# Altium schematic symbol library Audio.SchLib: 84 symbols (part 1 of 2)
Pins are listed as number, name and electrical type; pins without a type are passive.

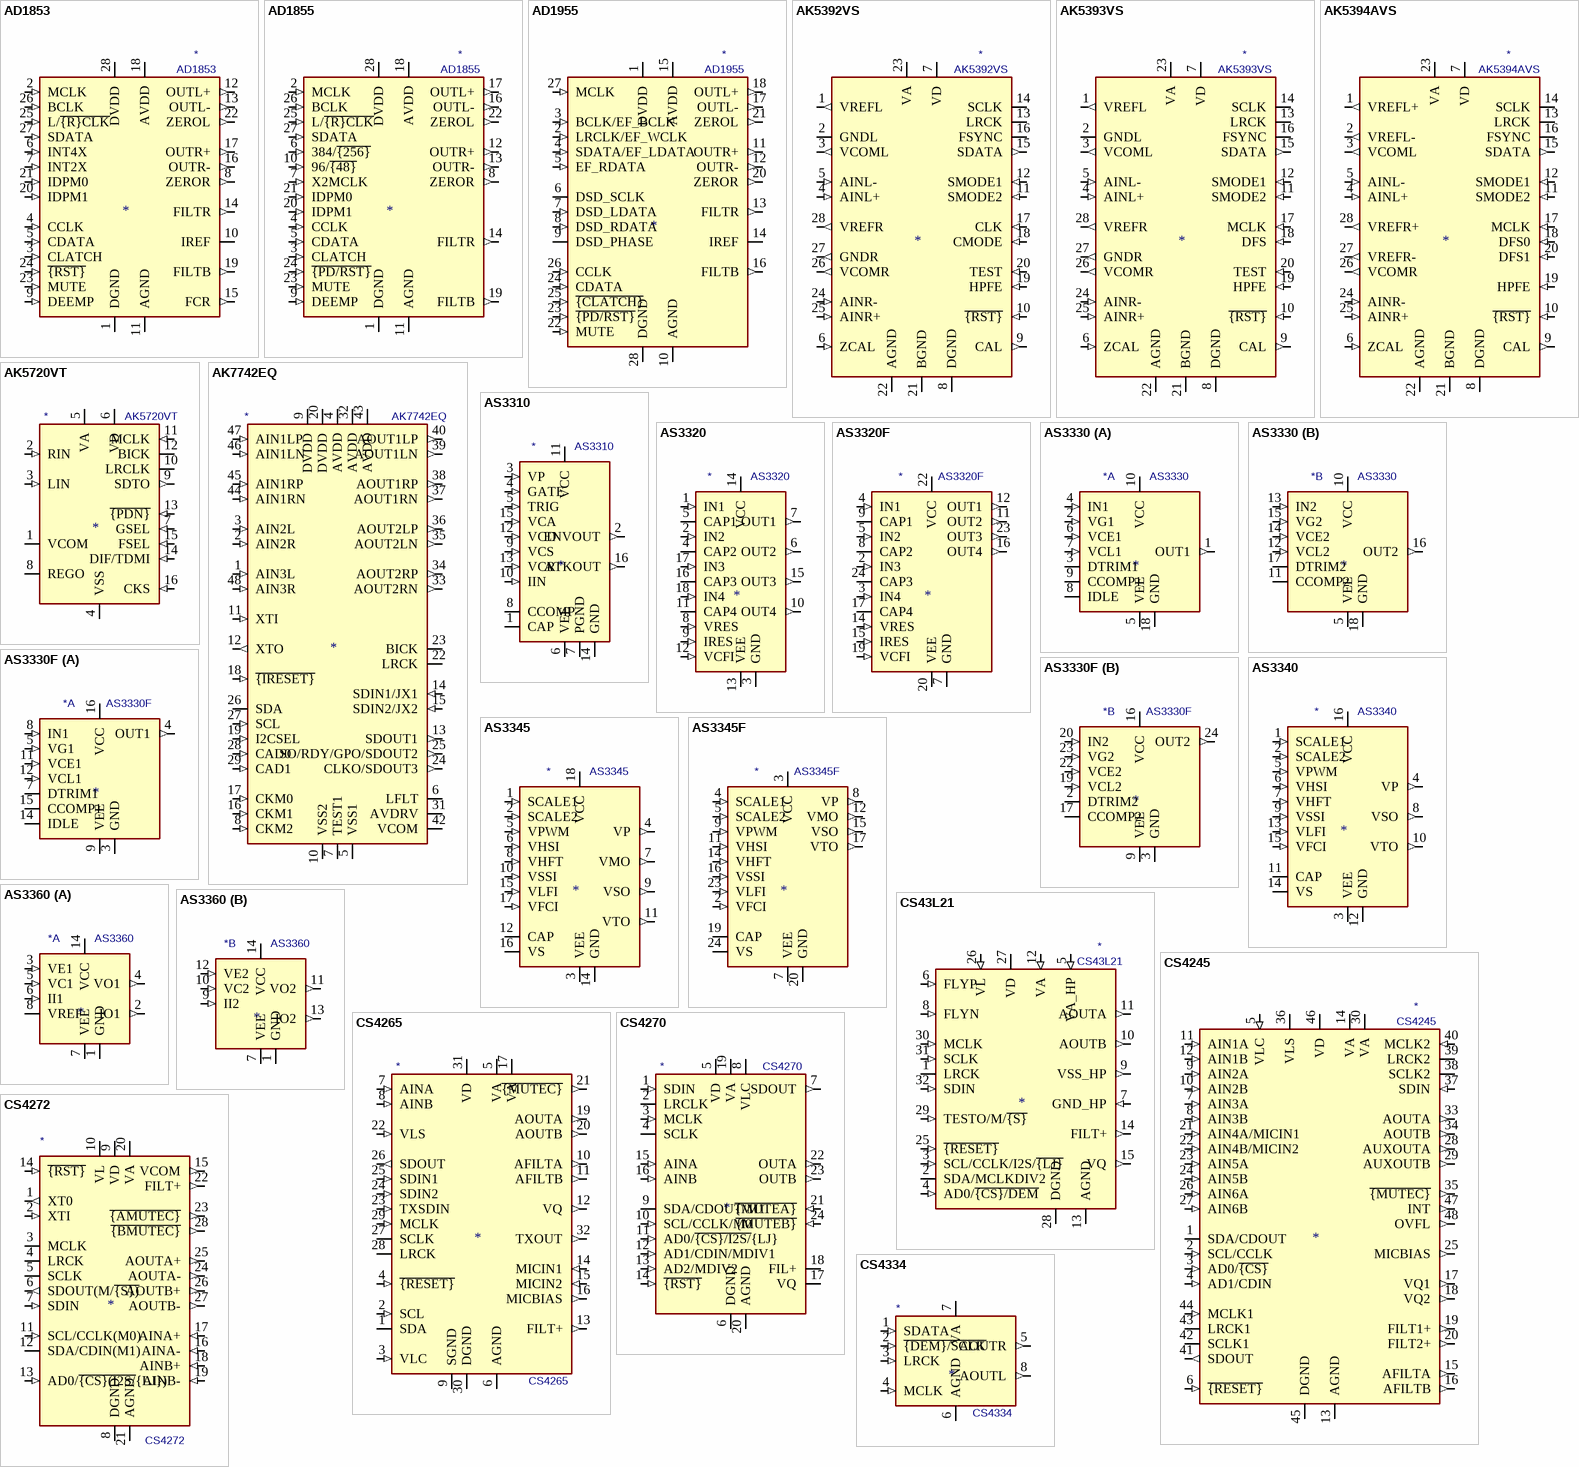
[diagram p0: symbols AD1853 to CS4334]

## AD1853
designator *  value AD1853
ki_keywords: audio dac 2ch 24bit 192kHz; ki_description: Stereo, 24-Bit, 192 kHz, Multibit Sigma-Delta DAC, SSOP-28; ki_fp_filters: SSOP*5.3x10.2mm*P0.65mm*; Footprint: Package_SO:SSOP-28_5.3x10.2mm_P0.65mm; Supplier: https://www.analog.com/media/en/technical-documentation/data-sheets/AD1853.pdf
footprint SSOP-28_5.3x10.2mm_P0.65mm
pins: 1 DGND (power), 2 MCLK (in), 3 CLATCH (in), 4 CCLK (in), 5 CDATA (in), 6 INT4X (in), 7 INT2X (in), 8 ZEROR (out), 9 DEEMP (in), 10 IREF, 11 AGND (power), 12 OUTL+ (out), 13 OUTL- (out), 14 FILTR (out), 15 FCR (out), 16 OUTR- (out), 17 OUTR+ (out), 18 AVDD (power), 19 FILTB (out), 20 IDPM1 (in), 21 IDPM0 (in), 22 ZEROL (out), 23 MUTE (in), 24 ~{{RST}} (in), 25 L/~{{R}CLK} (in), 26 BCLK (in), 27 SDATA (in), 28 DVDD (power)

## AD1855
designator *  value AD1855
ki_keywords: audio dac 2ch 24bit 96kHz; ki_description: Stereo, 96 kHz, Multibit Sigma-Delta DAC, SSOP-28; ki_fp_filters: SSOP*5.3x10.2mm*P0.65mm*; Footprint: Package_SO:SSOP-28_5.3x10.2mm_P0.65mm; Supplier: https://www.analog.com/media/en/technical-documentation/data-sheets/AD1855.pdf
footprint SSOP-28_5.3x10.2mm_P0.65mm
pins: 1 DGND (power), 2 MCLK (in), 3 CLATCH (in), 4 CCLK (in), 5 CDATA (in), 6 384/~{{256}} (in), 7 X2MCLK (in), 8 ZEROR (out), 9 DEEMP (in), 10 96/~{{48}} (in), 11 AGND (power), 12 OUTR+ (out), 13 OUTR- (out), 14 FILTR (out), 15 AGND hidden, 16 OUTL- (out), 17 OUTL+ (out), 18 AVDD (power), 19 FILTB (out), 20 IDPM1 (in), 21 IDPM0 (in), 22 ZEROL (out), 23 MUTE (in), 24 ~{{PD/RST}} (in), 25 L/~{{R}CLK} (in), 26 BCLK (in), 27 SDATA (in), 28 DVDD (power)

## AD1955
designator *  value AD1955
ki_keywords: audio dac 2ch 24bit 192kHz; ki_description: High Performance Multibit Sigma-Delta DAC with SACD Playback, SSOP-28; ki_fp_filters: SSOP*5.3x10.2mm*P0.65mm*; Footprint: Package_SO:SSOP-28_5.3x10.2mm_P0.65mm; Supplier: https://www.analog.com/media/en/technical-documentation/data-sheets/AD1955.pdf
footprint SSOP-28_5.3x10.2mm_P0.65mm
pins: 1 DVDD (power), 2 LRCLK/EF_WCLK (in), 3 BCLK/EF_BCLK (in), 4 SDATA/EF_LDATA (in), 5 EF_RDATA (in), 6 DSD_SCLK (io), 7 DSD_LDATA (in), 8 DSD_RDATA (in), 9 DSD_PHASE (io), 10 AGND (power), 11 OUTR+ (out), 12 OUTR- (out), 13 FILTR (out), 14 IREF, 15 AVDD (power), 16 FILTB (out), 17 OUTL- (out), 18 OUTL+ (out), 19 AGND hidden, 20 ZEROR (out), 21 ZEROL (out), 22 MUTE (in), 23 ~{{PD/RST}} (in), 24 CDATA (in), 25 ~{{CLATCH}} (in), 26 CCLK (in), 27 MCLK (in), 28 DGND (power)

## AK5392VS
designator *  value AK5392VS
ki_keywords: audio adc 2ch 24bit; ki_description: Enhanced Dual Bit Sigma-Delta 24Bit ADC, SOIC-28; ki_fp_filters: SOIC*7.5x18.7mm*P1.27mm*; Footprint: Package_SO:SOIC-28W_7.5x18.7mm_P1.27mm; Supplier: https://media.digikey.com/pdf/Data%20Sheets/AKM%20Semiconductor%20Inc.%20PDFs/AK5392.pdf
footprint SOIC-28W_7.5x18.7mm_P1.27mm
pins: 1 VREFL (out), 2 GNDL (power), 3 VCOML (out), 4 AINL+ (in), 5 AINL- (in), 6 ZCAL (in), 7 VD (power), 8 DGND (power), 9 CAL (out), 10 ~{{RST}} (in), 11 SMODE2 (in), 12 SMODE1 (in), 13 LRCK (io), 14 SCLK (io), 15 SDATA (out), 16 FSYNC (io), 17 CLK (in), 18 CMODE (in), 19 HPFE (in), 20 TEST (in), 21 BGND (power), 22 AGND (power), 23 VA (power), 24 AINR- (in), 25 AINR+ (in), 26 VCOMR (out), 27 GNDR (out), 28 VREFR (out)

## AK5393VS
designator *  value AK5393VS
ki_keywords: audio adc 2ch 24bit 96kHz; ki_description: Enhanced Dual Bit Sigma-Delta 96kHz 24-Bit ADC, SOIC-28; ki_fp_filters: SOIC*7.5x18.7mm*P1.27mm*; Footprint: Package_SO:SOIC-28W_7.5x18.7mm_P1.27mm; Supplier: https://www.akm.com/akm/en/file/datasheet/AK5393VS.pdf
footprint SOIC-28W_7.5x18.7mm_P1.27mm
pins: 1 VREFL (out), 2 GNDL (power), 3 VCOML (out), 4 AINL+ (in), 5 AINL- (in), 6 ZCAL (in), 7 VD (power), 8 DGND (power), 9 CAL (out), 10 ~{{RST}} (in), 11 SMODE2 (in), 12 SMODE1 (in), 13 LRCK (io), 14 SCLK (io), 15 SDATA (out), 16 FSYNC (io), 17 MCLK (in), 18 DFS (in), 19 HPFE (in), 20 TEST (in), 21 BGND (power), 22 AGND (power), 23 VA (power), 24 AINR- (in), 25 AINR+ (in), 26 VCOMR (out), 27 GNDR (out), 28 VREFR (out)

## AK5394AVS
designator *  value AK5394AVS
ki_keywords: audio adc 2ch 24bit 192kHz; ki_description: Super High Performance 192kHz 24-Bit Sigma-Delta ADC, SOIC-28; ki_fp_filters: SOIC*7.5x18.7mm*P1.27mm*; Footprint: Package_SO:SOIC-28W_7.5x18.7mm_P1.27mm; Supplier: http://www.akm.com/akm/en/file/datasheet/AK5394AVS.pdf
footprint SOIC-28W_7.5x18.7mm_P1.27mm
pins: 1 VREFL+ (out), 2 VREFL- (out), 3 VCOML (out), 4 AINL+ (in), 5 AINL- (in), 6 ZCAL (in), 7 VD (power), 8 DGND (power), 9 CAL (out), 10 ~{{RST}} (in), 11 SMODE2 (in), 12 SMODE1 (in), 13 LRCK (io), 14 SCLK (io), 15 SDATA (out), 16 FSYNC (io), 17 MCLK (in), 18 DFS0 (in), 19 HPFE (in), 20 DFS1 (in), 21 BGND (power), 22 AGND (power), 23 VA (power), 24 AINR- (in), 25 AINR+ (in), 26 VCOMR (out), 27 VREFR- (out), 28 VREFR+ (out)

## AK5720VT
designator *  value AK5720VT
ki_keywords: audio adc 2ch 24bit 96kHz I2S MSB TDM; ki_description: Stereo, 96kHz, 24-Bit, Delta-Sigma ADC, TSSOP-16; ki_fp_filters: TSSOP*4.4x5mm*P0.65mm*; Footprint: Package_SO:TSSOP-16_4.4x5mm_P0.65mm; Supplier: https://www.akm.com/akm/en/file/datasheet/AK5720VT.pdf
footprint TSSOP-16_4.4x5mm_P0.65mm
pins: 1 VCOM, 2 RIN (in), 3 LIN (in), 4 VSS (power), 5 VA (power), 6 VD (power), 7 GSEL (in), 8 REGO, 9 SDTO (out), 10 LRCLK (io), 11 MCLK (in), 12 BICK (io), 13 ~{{PDN}} (in), 14 DIF/TDMI (in), 15 FSEL (in), 16 CKS (in)

## AK7742EQ
designator *  value AK7742EQ
ki_keywords: audio adc 2ch dac 4ch dsp; ki_description: 24bit 2ch ADC + 24bit 4ch DAC with Audio DSP, LQFP-48; ki_fp_filters: LQFP*7x7mm*P0.5mm*; Footprint: Package_QFP:LQFP-48_7x7mm_P0.5mm; Supplier: https://www.akm.com/akm/en/file/datasheet/AK7742EQ.pdf
footprint LQFP-48_7x7mm_P0.5mm
pins: 1 AIN3L (in), 2 AIN2R (in), 3 AIN2L (in), 4 AVDD (power), 5 VSS1 (power), 6 LFLT, 7 TEST1, 8 CKM2 (in), 9 DVDD (power), 10 VSS2 (power), 11 XTI (in), 12 XTO (out), 13 SDOUT1 (out), 14 SDIN1/JX1 (in), 15 SDIN2/JX2 (in), 16 CKM1 (in), 17 CKM0 (in), 18 ~{{IRESET}} (in), 19 I2CSEL (in), 20 DVDD (power), 21 VSS2 hidden, 22 LRCK (io), 23 BICK (io), 24 CLKO/SDOUT3 (out), 25 SO/RDY/GPO/SDOUT2 (out), 26 SDA (io), 27 SCL (in), 28 CAD0 (in), 29 CAD1 (in), 30 VSS1 hidden, 31 AVDRV, 32 AVDD (power), 33 AOUT2RN (out), 34 AOUT2RP (out), 35 AOUT2LN (out), 36 AOUT2LP (out), 37 AOUT1RN (out), 38 AOUT1RP (out), 39 AOUT1LN (out), 40 AOUT1LP (out), 41 VSS1 hidden, 42 VCOM, 43 AVDD (power), 44 AIN1RN (in), 45 AIN1RP (in), 46 AIN1LN (in), 47 AIN1LP (in), 48 AIN3R (in)

## AS3310
designator *  value AS3310
ki_keywords: VCEG CEM3310 ALFA; ki_description: ADSR Voltage Controlled Envelope Generator, DIP-16/SOIC-16; ki_fp_filters: DIP*W7.62mm* SOIC*3.9x9.9mm*P1.27mm*; Supplier: http://www.alfarzpp.lv/eng/sc/AS3310.pdf
pins: 1 CAP, 2 ENVOUT (out), 3 VP (in), 4 GATE (in), 5 TRIG (in), 6 VEE (power), 7 PGND (power), 8 CCOMP, 9 VCS (in), 10 IIN (in), 11 VCC (power), 12 VCD (in), 13 VCR (in), 14 GND (power), 15 VCA (in), 16 ATKOUT (out)

## AS3320
designator *  value AS3320
ki_keywords: VCF CEM3320 ALFA; ki_description: Voltage Controlled Filter (VCF), DIP-18; ki_fp_filters: DIP*W7.62mm*; Footprint: Package_DIP:DIP-18_W7.62mm; Supplier: http://www.alfarzpp.lv/eng/sc/AS3320.pdf
footprint DIP-18_W7.62mm
pins: 1 IN1 (in), 2 IN2 (in), 3 GND (power), 4 CAP2, 5 CAP1, 6 OUT2 (out), 7 OUT1 (out), 8 VRES (in), 9 IRES (in), 10 OUT4 (out), 11 CAP4, 12 VCFI (in), 13 VEE (power), 14 VCC (power), 15 OUT3 (out), 16 CAP3, 17 IN3 (in), 18 IN4 (in)

## AS3320F
designator *  value AS3320F
ki_keywords: VCF CEM3320 ALFA; ki_description: Voltage Controlled Filter (VCF), QFN-24; ki_fp_filters: QFN*1EP*4x4mm*P0.5mm*; Footprint: Package_DFN_QFN:QFN-24-1EP_4x4mm_P0.5mm_EP2.7x2.7mm; Supplier: http://www.alfarzpp.lv/eng/sc/AS3320.pdf
footprint QFN-24-1EP_4x4mm_P0.5mm_EP2.7x2.7mm
pins: 1 NC (in) hidden, 2 IN3 (in), 3 IN4 (in), 4 IN1 (in), 5 IN2 (in), 6 NC (in) hidden, 7 GND (power), 8 CAP2, 9 CAP1, 10 NC (in) hidden, 11 OUT2 (out), 12 OUT1 (out), 13 NC (in) hidden, 14 VRES (in), 15 IRES (in), 16 OUT4 (out), 17 CAP4, 18 NC (in) hidden, 19 VCFI (in), 20 VEE (power), 21 NC (in) hidden, 22 VCC (power), 23 OUT3 (out), 24 CAP3

## AS3330
designator *  value AS3330
ki_keywords: VCA CEM3330 ALFA; ki_description: Dual Voltage Controlled Amplifier (VCA), DIP-18; ki_fp_filters: DIP*W7.62mm*; Footprint: Package_DIP:DIP-18_W7.62mm; Supplier: http://www.alfarzpp.lv/eng/sc/AS3330.pdf
footprint DIP-18_W7.62mm
part A pins: 1 OUT1 (out), 2 VG1 (in), 3 DTRIM1, 4 IN1 (in), 5 VEE (power), 6 VCE1 (in), 7 VCL1 (in), 8 IDLE, 9 CCOMP1, 10 VCC (power), 18 GND (power)
part B pins: 5 VEE (power), 10 VCC (power), 11 CCOMP2, 12 VCL2 (in), 13 IN2 (in), 14 VCE2 (in), 15 VG2 (in), 16 OUT2 (out), 17 DTRIM2, 18 GND (power)

## AS3330F
designator *  value AS3330F
ki_keywords: VCA CEM3330 ALFA; ki_description: Dual Voltage Controlled Amplifier (VCA), QFN-24; ki_fp_filters: QFN*1EP*4x4mm*P0.5mm*; Footprint: Package_DFN_QFN:QFN-24-1EP_4x4mm_P0.5mm_EP2.7x2.7mm; Supplier: http://www.alfarzpp.lv/eng/sc/AS3330.pdf
footprint QFN-24-1EP_4x4mm_P0.5mm_EP2.7x2.7mm
part A pins: 1 NC (in) hidden, 3 GND (power), 4 OUT1 (out), 5 VG1 (in), 6 NC (in) hidden, 7 DTRIM1, 8 IN1 (in), 9 VEE (power), 10 NC (in) hidden, 11 VCE1 (in), 12 VCL1 (in), 13 NC (in) hidden, 14 IDLE, 15 CCOMP1, 16 VCC (power), 18 NC (in) hidden, 21 NC (in) hidden
part B pins: 2 DTRIM2, 3 GND (power), 9 VEE (power), 16 VCC (power), 17 CCOMP2, 19 VCL2 (in), 20 IN2 (in), 22 VCE2 (in), 23 VG2 (in), 24 OUT2 (out)

## AS3340
designator *  value AS3340
ki_keywords: VCO CEM340 ALFA; ki_description: Voltage Controlled Oscillator (VCO), DIP-16/SOIC-16; ki_fp_filters: DIP*W7.62mm* SOIC*3.9x9.9mm*P1.27mm*; Supplier: http://www.alfarzpp.lv/eng/sc/AS3340.pdf
pins: 1 SCALE1 (in), 2 SCALE2 (in), 3 VEE (power), 4 VP (out), 5 VPWM (in), 6 VHSI (in), 7 VHFT (in), 8 VSO (out), 9 VSSI (in), 10 VTO (out), 11 CAP, 12 GND (power), 13 VLFI (in), 14 VS, 15 VFCI (in), 16 VCC (power)

## AS3345
designator *  value AS3345
ki_keywords: VCO CEM345 ALFA; ki_description: Voltage Controlled Oscillator (VCO), DIP-18; ki_fp_filters: DIP*W7.62mm*; Footprint: Package_DIP:DIP-18_W7.62mm; Supplier: http://www.alfarzpp.lv/eng/sc/AS3340.pdf
footprint DIP-18_W7.62mm
pins: 1 SCALE1 (in), 2 SCALE2 (in), 3 VEE (power), 4 VP (out), 5 VPWM (in), 6 VHSI (in), 7 VMO (out), 8 VHFT (in), 9 VSO (out), 10 VSSI (in), 11 VTO (out), 12 CAP, 13 GND hidden, 14 GND (power), 15 VLFI (in), 16 VS, 17 VFCI (in), 18 VCC (power)

## AS3345F
designator *  value AS3345F
ki_keywords: VCO CEM345 ALFA; ki_description: Voltage Controlled Oscillator (VCO), QFN-24; ki_fp_filters: QFN*1EP*4x4mm*P0.5mm*; Footprint: Package_DFN_QFN:QFN-24-1EP_4x4mm_P0.5mm_EP2.7x2.7mm; Supplier: http://www.alfarzpp.lv/eng/sc/AS3340.pdf
footprint QFN-24-1EP_4x4mm_P0.5mm_EP2.7x2.7mm
pins: 1 NC (in) hidden, 2 VFCI (in), 3 VCC (power), 4 SCALE1 (in), 5 SCALE2 (in), 6 NC (in) hidden, 7 VEE (power), 8 VP (out), 9 VPWM (in), 10 NC (in) hidden, 11 VHSI (in), 12 VMO (out), 13 NC (in) hidden, 14 VHFT (in), 15 VSO (out), 16 VSSI (in), 17 VTO (out), 18 NC (in) hidden, 19 CAP, 20 GND (power), 21 NC (in) hidden, 22 GND hidden, 23 VLFI (in), 24 VS

## AS3360
designator *  value AS3360
ki_keywords: VCA CEM3360 ALFA; ki_description: Dual Voltage Controlled Amplifier (VCA), DIP-14/SOIC-14; ki_fp_filters: DIP*W7.62mm* SOIC*3.9x8.7mm*P1.27mm*; Supplier: http://www.alfarzpp.lv/eng/sc/AS3360.pdf
part A pins: 1 GND (power), 2 IO1 (out), 3 VE1 (in), 4 VO1 (out), 5 VC1 (in), 6 II1 (in), 7 VEE (power), 8 VREF, 14 VCC (power)
part B pins: 1 GND (power), 7 VEE (power), 9 II2 (in), 10 VC2 (in), 11 VO2 (out), 12 VE2 (in), 13 IO2 (out), 14 VCC (power)

## CS43L21
designator *  value CS43L21
ki_keywords: audio dac 2ch 24bit 96kHz; ki_description: Low-Power, Stereo Digital-to-Analog Converter, QFN-32; ki_fp_filters: QFN*5x5mm*P0.5mm*; Footprint: Package_DFN_QFN:QFN-32-1EP_5x5mm_P0.5mm_EP3.45x3.45mm; Supplier: https://d3uzseaevmutz1.cloudfront.net/pubs/proDatasheet/CS43L21_F1.pdf
footprint QFN-32-1EP_5x5mm_P0.5mm_EP3.45x3.45mm
pins: 1 LRCK (io), 2 SDA/MCLKDIV2 (io), 3 SCL/CCLK/I2S/~{{LJ}} (in), 4 AD0/~{{CS}/DEM} (in), 5 VA_HP (in), 6 FLYP (in), 7 GND_HP (in), 8 FLYN (in), 9 VSS_HP (out), 10 AOUTB (out), 11 AOUTA (out), 12 VA (in), 13 AGND (power), 14 FILT+ (out), 15 VQ (out), 16 NIC (in) hidden, 17 TSTO (in) hidden, 18 TSTO (in) hidden, 19 TSTO (in) hidden, 20 TSTO (in) hidden, 21 TSTO (in) hidden, 22 TSTO (in) hidden, 23 TSTO (in) hidden, 24 TSTO (in) hidden, 25 ~{{RESET}} (in), 26 VL (in), 27 VD (power), 28 DGND (power), 29 TESTO/M/~{{S}} (in), 30 MCLK (in), 31 SCLK (in), 32 SDIN (in), 33 AGND hidden

## CS4245
designator *  value CS4245
ki_keywords: audio codec 2ch 24bit 192kHz; ki_description: 104 dB, 24-Bit, 192 kHz Stereo Audio CODEC, LQFP-48; ki_fp_filters: LQFP*7x7mm*P0.5mm*; Footprint: Package_QFP:LQFP-48_7x7mm_P0.5mm; Supplier: https://d3uzseaevmutz1.cloudfront.net/pubs/proDatasheet/CS4245_F3.pdf
footprint LQFP-48_7x7mm_P0.5mm
pins: 1 SDA/CDOUT (io), 2 SCL/CCLK (in), 3 AD0/~{{CS}} (in), 4 AD1/CDIN (in), 5 VLC (in), 6 ~{{RESET}} (in), 7 AIN3A (in), 8 AIN3B (in), 9 AIN2A (in), 10 AIN2B (in), 11 AIN1A (in), 12 AIN1B (in), 13 AGND (power), 14 VA (power), 15 AFILTA (out), 16 AFILTB (out), 17 VQ1 (out), 18 VQ2 (out), 19 FILT1+ (out), 20 FILT2+ (out), 21 AIN4A/MICIN1 (in), 22 AIN4B/MICIN2 (in), 23 AIN5A (in), 24 AIN5B (in), 25 MICBIAS (out), 26 AIN6A (in), 27 AIN6B (in), 28 AUXOUTA (out), 29 AUXOUTB (out), 30 VA (power), 31 AGND hidden, 32 AGND hidden, 33 AOUTA (out), 34 AOUTB (out), 35 ~{{MUTEC}} (out), 36 VLS (power), 37 SDIN (in), 38 SCLK2 (io), 39 LRCK2 (io), 40 MCLK2 (in), 41 SDOUT (out), 42 SCLK1 (io), 43 LRCK1 (io), 44 MCLK1 (in), 45 DGND (power), 46 VD (power), 47 INT (out), 48 OVFL (out)

## CS4265
designator *  value CS4265
ki_keywords: Audio codec 24bit 192khz stereo; ki_description: 104 dB, 24-Bit, 192 kHz Stereo Audio CODEC, QFN-32; ki_fp_filters: QFN*1EP*5x5mm*0.5mm*; Footprint: Package_DFN_QFN:QFN-32-1EP_5x5mm_P0.5mm_EP3.6x3.6mm; Supplier: https://statics.cirrus.com/pubs/proDatasheet/CS4265_F5.pdf
footprint QFN-32-1EP_5x5mm_P0.5mm_EP3.6x3.6mm
pins: 1 SDA (io), 2 SCL (in), 3 VLC (in), 4 ~{{RESET}} (in), 5 VA (power), 6 AGND (power), 7 AINA (in), 8 AINB (in), 9 SGND (power), 10 AFILTA (out), 11 AFILTB (out), 12 VQ (out), 13 FILT+ (out), 14 MICIN1 (in), 15 MICIN2 (in), 16 MICBIAS (out), 17 VA (power), 18 AGND hidden, 19 AOUTA (out), 20 AOUTB (out), 21 ~{{MUTEC}} (out), 22 VLS (in), 23 TXSDIN (in), 24 SDIN2 (in), 25 SDIN1 (in), 26 SDOUT (out), 27 SCLK (io), 28 LRCK (io), 29 MCLK (in), 30 DGND (power), 31 VD (power), 32 TXOUT (out), 33 AGND hidden

## CS4270
designator *  value CS4270
ki_keywords: Audio Codec; ki_description: 24-Bit, 192-kHz Stereo Audio CODEC, TSSOP-24; ki_fp_filters: TSSOP*4.4x7.8mm*P0.65mm*; Footprint: Package_SO:TSSOP-24_4.4x7.8mm_P0.65mm; Supplier: https://statics.cirrus.com/pubs/proDatasheet/CS4270_F1.pdf
footprint TSSOP-24_4.4x7.8mm_P0.65mm
pins: 1 SDIN (in), 2 LRCLK (io), 3 MCLK (in), 4 SCLK (io), 5 VD (power), 6 DGND (power), 7 SDOUT (out), 8 VLC (power), 9 SDA/CDOUT/M1 (io), 10 SCL/CCLK/M0 (in), 11 AD0/~{{CS}/I2S/}{LJ} (in), 12 AD1/CDIN/MDIV1 (in), 13 AD2/MDIV2 (in), 14 ~{{RST}} (in), 15 AINA (in), 16 AINB (in), 17 VQ, 18 FIL+, 19 VA (power), 20 AGND (power), 21 ~{{MUTEA}} (in), 22 OUTA (out), 23 OUTB (out), 24 ~{{MUTEB}} (in)

## CS4272
designator *  value CS4272
ki_keywords: stereo 2ch audio codec i2s 24bit 192kHz; ki_description: 24-Bit, 192 kHz Stereo Audio CODEC, TSSOP-28; ki_fp_filters: TSSOP*4.4x9.7mm*P0.65mm*; Footprint: Package_SO:TSSOP-28_4.4x9.7mm_P0.65mm; Supplier: https://statics.cirrus.com/pubs/proDatasheet/CS4272_F1.pdf
footprint TSSOP-28_4.4x9.7mm_P0.65mm
pins: 1 XT0 (out), 2 XTI (in), 3 MCLK (io), 4 LRCK (io), 5 SCLK (io), 6 SDOUT(M/~{{S})} (out), 7 SDIN (in), 8 DGND (power), 9 VD (power), 10 VL (power), 11 SCL/CCLK(M0) (in), 12 SDA/CDIN(M1) (io), 13 AD0/~{{CS}(I2S/}{LJ}) (in), 14 ~{{RST}} (in), 15 VCOM (out), 16 AINA- (in), 17 AINA+ (in), 18 AINB+ (in), 19 AINB- (in), 20 VA (power), 21 AGND (power), 22 FILT+ (out), 23 ~{{AMUTEC}} (out), 24 AOUTA- (out), 25 AOUTA+ (out), 26 AOUTB+ (out), 27 AOUTB- (out), 28 ~{{BMUTEC}} (out)

## CS4334
designator *  value CS4334
ki_keywords: stereo 2ch audio codec i2s 24bit 96kHz; ki_description: 24-Bit, 96kHz Stereo D/A Converter, SOIC-8; ki_fp_filters: SOIC*3.9x4.9mm*P1.27mm*; Footprint: Package_SO:SOIC-8_3.9x4.9mm_P1.27mm; Supplier: https://statics.cirrus.com/pubs/proDatasheet/CS4334-5-8-9_F7.pdf
footprint SOIC-8_3.9x4.9mm_P1.27mm
pins: 1 SDATA (in), 2 ~{{DEM}/SCLK} (in), 3 LRCK (in), 4 MCLK (in), 5 AOUTR (out), 6 AGND (power), 7 VA (power), 8 AOUTL (out)

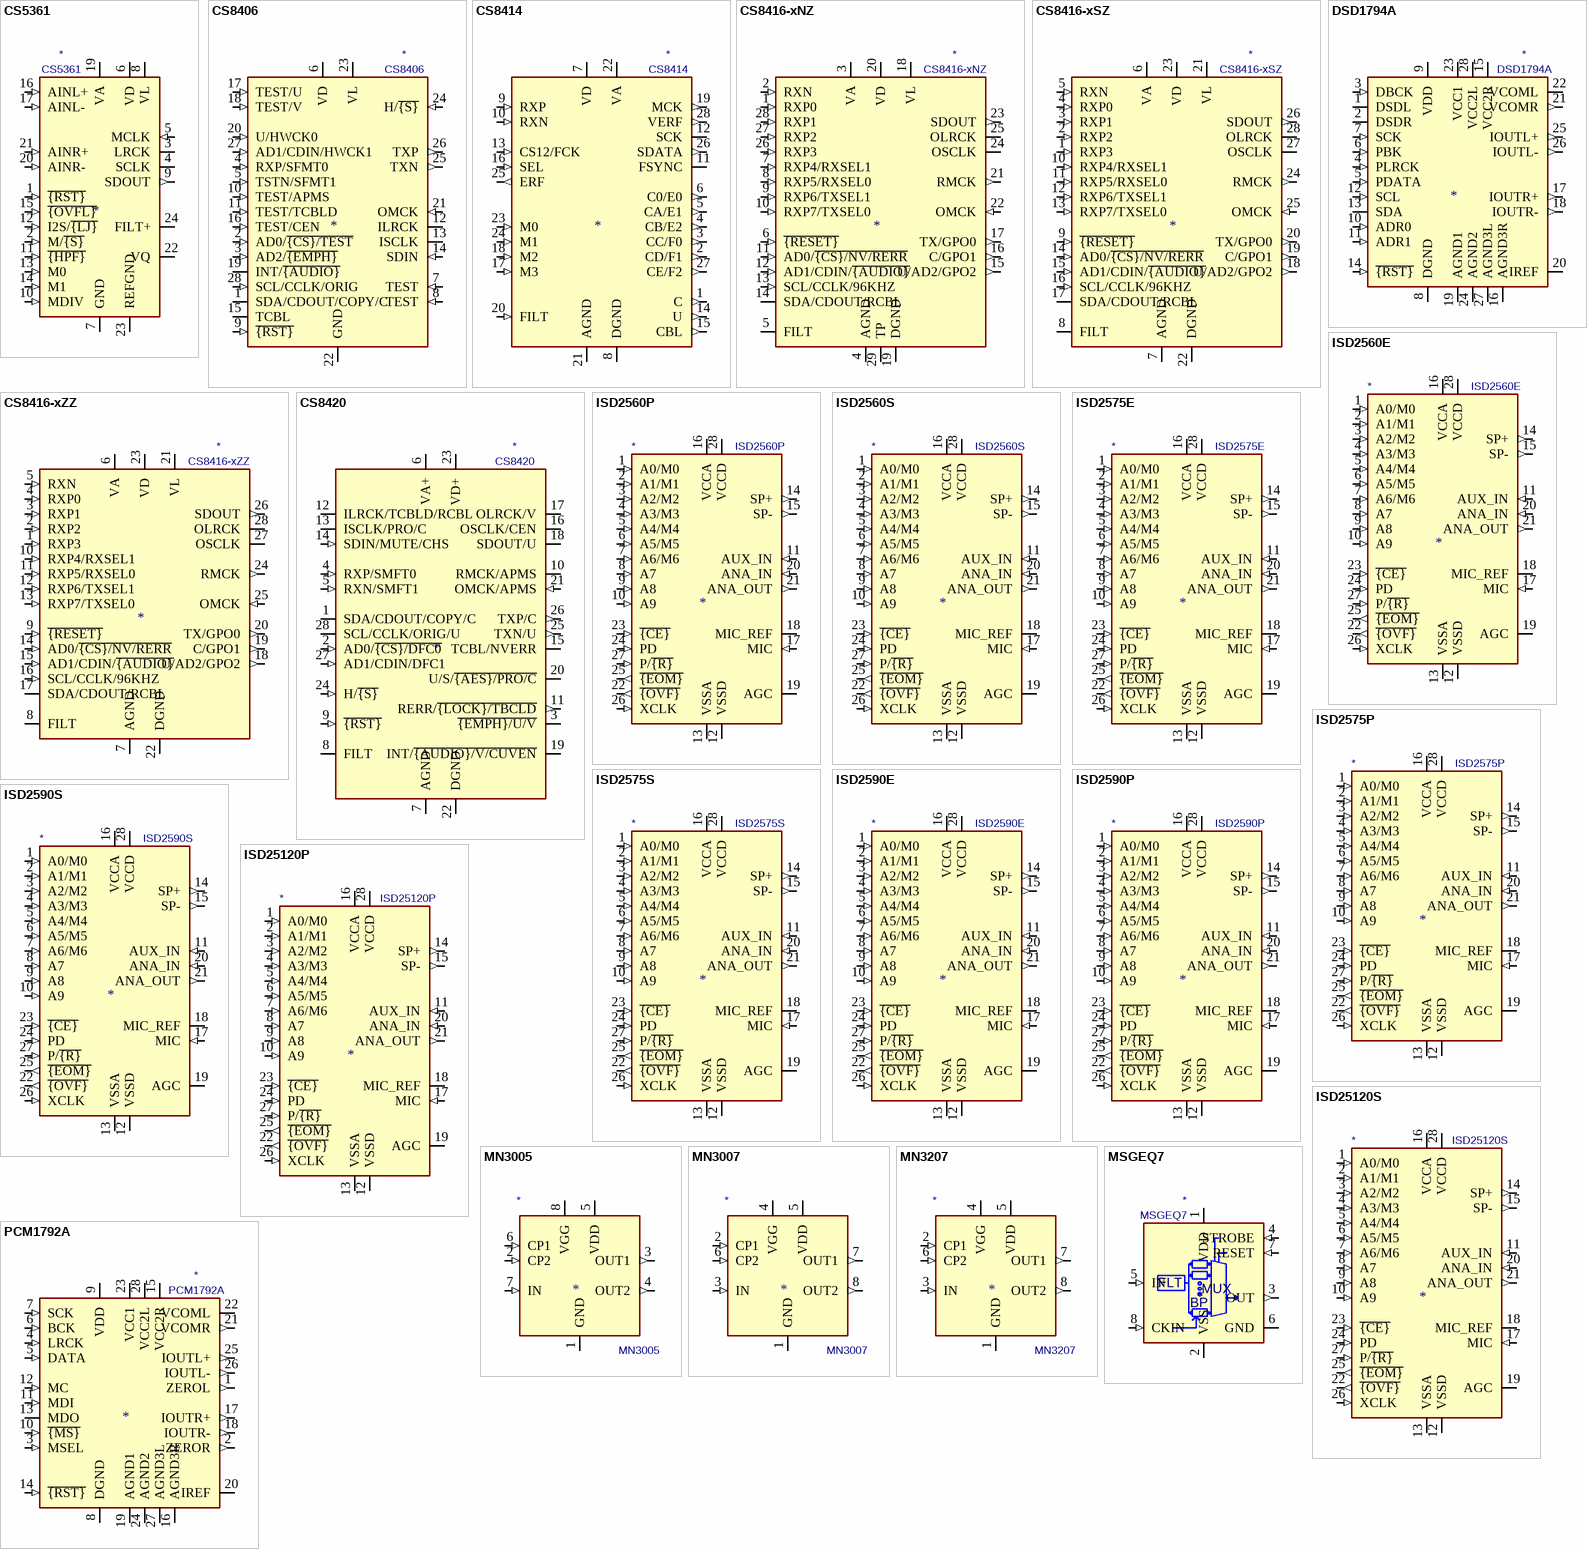
[diagram p1: symbols CS5361 to PCM1792A]

## CS5361
designator *  value CS5361
ki_keywords: audio adc 2ch 24bit 192kHz; ki_description: 114 dB, 192 kHz, Multi-Bit Audio A/D Converter, SOIC-24/TSSOP-24; ki_fp_filters: SOIC*7.5x15.4mm*P1.27mm* TSSOP*4.4x7.8mm*P0.65mm*; Supplier: https://d3uzseaevmutz1.cloudfront.net/pubs/proDatasheet/CS5361_F2.pdf
pins: 1 ~{{RST}} (in), 2 M/~{{S}} (in), 3 LRCK (io), 4 SCLK (io), 5 MCLK (in), 6 VD (power), 7 GND (power), 8 VL (power), 9 SDOUT (out), 10 MDIV (in), 11 ~{{HPF}} (in), 12 I2S/~{{LJ}} (in), 13 M0 (in), 14 M1 (in), 15 ~{{OVFL}} (in), 16 AINL+ (in), 17 AINL- (in), 18 GND hidden, 19 VA (power), 20 AINR- (in), 21 AINR+ (in), 22 VQ (power), 23 REFGND (power), 24 FILT+ (power)

## CS8406
designator *  value CS8406
ki_keywords: audio digital interface transmitter 192kHz; ki_description: 192 kHz Digital Audio Interface Transmitter, SOIC-28/TSSOP-28; ki_fp_filters: SOIC*7.5x17.9mm*P1.27mm* TSSOP*4.4x9.7mm*P0.65mm*; Supplier: https://d3uzseaevmutz1.cloudfront.net/pubs/proDatasheet/CS8406_F6.pdf
pins: 1 SDA/CDOUT/COPY/C (io), 2 AD0/~{{CS}/TEST} (in), 3 AD2/~{{EMPH}} (in), 4 RXP/SFMT0 (in), 5 TSTN/SFMT1 (in), 6 VD (power), 7 TEST (in), 8 TEST (in), 9 ~{{RST}} (in), 10 TEST/APMS (in), 11 TEST/TCBLD (in), 12 ILRCK (io), 13 ISCLK (io), 14 SDIN (in), 15 TCBL (io), 16 TEST/CEN (in), 17 TEST/U (in), 18 TEST/V (in), 19 INT/~{{AUDIO}} (io), 20 U/HWCK0 (in), 21 OMCK (in), 22 GND (power), 23 VL (power), 24 H/~{{S}} (in), 25 TXN (out), 26 TXP (out), 27 AD1/CDIN/HWCK1 (in), 28 SCL/CCLK/ORIG (in)

## CS8414
designator *  value CS8414
ki_keywords: audio digital interface receiver; ki_description: 96 kHz Digital Audio Receiver, SOIC-28; ki_fp_filters: SOIC*7.5x17.9mm*P1.27mm*; Footprint: Package_SO:SOIC-28W_7.5x17.9mm_P1.27mm; Supplier: http://lampizator.eu/LAMPIZATOR/TRANSPORT/CS8414_receiver.pdf
footprint SOIC-28W_7.5x17.9mm_P1.27mm
pins: 1 C (out), 2 CD/F1 (out), 3 CC/F0 (out), 4 CB/E2 (out), 5 CA/E1 (out), 6 C0/E0 (out), 7 VD (power), 8 DGND (power), 9 RXP (in), 10 RXN (in), 11 FSYNC (io), 12 SCK (io), 13 CS12/FCK (in), 14 U (out), 15 CBL (out), 16 SEL (in), 17 M3 (in), 18 M2 (in), 19 MCK (out), 20 FILT (in), 21 AGND (power), 22 VA (power), 23 M0 (in), 24 M1 (in), 25 ERF (out), 26 SDATA (out), 27 CE/F2 (out), 28 VERF (out)

## CS8416-xNZ
designator *  value CS8416-xNZ
ki_keywords: audio digital interface receiver; ki_description: 192 kHz Digital Audio Interface Receiver, QFN-28; ki_fp_filters: QFN*5x5mm*P0.5mm*; Footprint: Package_DFN_QFN:QFN-28-1EP_5x5mm_P0.5mm_EP3.35x3.35mm; Supplier: https://d3uzseaevmutz1.cloudfront.net/pubs/proDatasheet/CS8416_F3.pdf
footprint QFN-28-1EP_5x5mm_P0.5mm_EP3.35x3.35mm
pins: 1 RXP0 (in), 2 RXN (in), 3 VA (power), 4 AGND (power), 5 FILT, 6 ~{{RESET}} (in), 7 RXP4/RXSEL1 (in), 8 RXP5/RXSEL0 (in), 9 RXP6/TXSEL1 (in), 10 RXP7/TXSEL0 (in), 11 AD0/~{{CS}/NV/RERR} (in), 12 AD1/CDIN/~{{AUDIO}} (in), 13 SCL/CCLK/96KHZ (in), 14 SDA/CDOUT/RCBL (io), 15 U/AD2/GPO2 (out), 16 C/GPO1 (out), 17 TX/GPO0 (out), 18 VL (power), 19 DGND (power), 20 VD (power), 21 RMCK (out), 22 OMCK (in), 23 SDOUT (out), 24 OSCLK (io), 25 OLRCK (io), 26 RXP3 (in), 27 RXP2 (in), 28 RXP1 (in), 29 TP (power)

## CS8416-xSZ
designator *  value CS8416-xSZ
ki_keywords: audio digital interface receiver; ki_description: 192 kHz Digital Audio Interface Receiver, SOIC-28; ki_fp_filters: SOIC*7.5x17.9mm*P1.27mm* TSSOP*4.4x9.7mm*P0.65mm*; Supplier: https://d3uzseaevmutz1.cloudfront.net/pubs/proDatasheet/CS8416_F3.pdf
pins: 1 RXP3 (in), 2 RXP2 (in), 3 RXP1 (in), 4 RXP0 (in), 5 RXN (in), 6 VA (power), 7 AGND (power), 8 FILT, 9 ~{{RESET}} (in), 10 RXP4/RXSEL1 (in), 11 RXP5/RXSEL0 (in), 12 RXP6/TXSEL1 (in), 13 RXP7/TXSEL0 (in), 14 AD0/~{{CS}/NV/RERR} (in), 15 AD1/CDIN/~{{AUDIO}} (in), 16 SCL/CCLK/96KHZ (in), 17 SDA/CDOUT/RCBL (io), 18 U/AD2/GPO2 (out), 19 C/GPO1 (out), 20 TX/GPO0 (out), 21 VL (power), 22 DGND (power), 23 VD (power), 24 RMCK (out), 25 OMCK (in), 26 SDOUT (out), 27 OSCLK (io), 28 OLRCK (io)

## CS8416-xZZ
designator *  value CS8416-xZZ
ki_keywords: audio digital interface receiver; ki_description: 192 kHz Digital Audio Interface Receiver, TSSOP-28; ki_fp_filters: SOIC*7.5x17.9mm*P1.27mm* TSSOP*4.4x9.7mm*P0.65mm*; Supplier: https://d3uzseaevmutz1.cloudfront.net/pubs/proDatasheet/CS8416_F3.pdf
pins: 1 RXP3 (in), 2 RXP2 (in), 3 RXP1 (in), 4 RXP0 (in), 5 RXN (in), 6 VA (power), 7 AGND (power), 8 FILT, 9 ~{{RESET}} (in), 10 RXP4/RXSEL1 (in), 11 RXP5/RXSEL0 (in), 12 RXP6/TXSEL1 (in), 13 RXP7/TXSEL0 (in), 14 AD0/~{{CS}/NV/RERR} (in), 15 AD1/CDIN/~{{AUDIO}} (in), 16 SCL/CCLK/96KHZ (in), 17 SDA/CDOUT/RCBL (io), 18 U/AD2/GPO2 (out), 19 C/GPO1 (out), 20 TX/GPO0 (out), 21 VL (power), 22 DGND (power), 23 VD (power), 24 RMCK (out), 25 OMCK (in), 26 SDOUT (out), 27 OSCLK (io), 28 OLRCK (io)

## CS8420
designator *  value CS8420
ki_keywords: audio sample rate converter; ki_description: Digital Audio Sample Rate Converter, SOIC-28; ki_fp_filters: SOIC*7.5x17.9mm*P1.27mm*; Footprint: Package_SO:SOIC-28W_7.5x17.9mm_P1.27mm; Supplier: https://d3uzseaevmutz1.cloudfront.net/pubs/proDatasheet/CS8420_F4.pdf
footprint SOIC-28W_7.5x17.9mm_P1.27mm
pins: 1 SDA/CDOUT/COPY/C (io), 2 AD0/~{{CS}/DFC0} (in), 3 ~{{EMPH}/U/V} (io), 4 RXP/SMFT0 (in), 5 RXN/SMFT1 (in), 6 VA+ (power), 7 AGND (power), 8 FILT, 9 ~{{RST}} (in), 10 RMCK/APMS (io), 11 RERR/~{{LOCK}/TBCLD} (out), 12 ILRCK/TCBLD/RCBL (io), 13 ISCLK/PRO/C (io), 14 SDIN/MUTE/CHS (in), 15 TCBL/NVERR (io), 16 OSCLK/CEN (io), 17 OLRCK/V (io), 18 SDOUT/U (io), 19 INT/~{{AUDIO}/V/CUVEN} (io), 20 U/S/~{{AES}/PRO/C} (io), 21 OMCK/APMS (in), 22 DGND (power), 23 VD+ (power), 24 H/~{{S}} (in), 25 TXN/U (out), 26 TXP/C (out), 27 AD1/CDIN/DFC1 (in), 28 SCL/CCLK/ORIG/U (io)

## DSD1794A
designator *  value DSD1794A
ki_keywords: audio dac 2ch 24bit 192kHz; ki_description: 24-Bit, 192-kHz Sampling, Advanced Segment, Audio Stereo Digital-to-Analog Converter, SW Control, SSOP-28; ki_fp_filters: SSOP*5.3x10.2mm*P0.65mm*; Footprint: Package_SO:SSOP-28_5.3x10.2mm_P0.65mm; Supplier: http://www.ti.com/lit/ds/symlink/dsd1794a.pdf
footprint SSOP-28_5.3x10.2mm_P0.65mm
pins: 1 DSDL (io), 2 DSDR (io), 3 DBCK (in), 4 PLRCK (in), 5 PDATA (in), 6 PBK (in), 7 SCK (in), 8 DGND (power), 9 VDD (power), 10 ADR0 (in), 11 ADR1 (in), 12 SCL (in), 13 SDA (io), 14 ~{{RST}} (in), 15 VCC2R (power), 16 AGND3R (power), 17 IOUTR+ (out), 18 IOUTR- (out), 19 AGND1 (power), 20 IREF, 21 VCOMR (out), 22 VCOML, 23 VCC1 (power), 24 AGND2 (power), 25 IOUTL+ (out), 26 IOUTL- (out), 27 AGND3L (power), 28 VCC2L (power)

## ISD2560E
designator *  value ISD2560E
ki_keywords: isd2560; ki_description: Single-Chip Voice Record/Playback Device 60-Second Duration, TSOP-I-28; ki_fp_filters: TSOP*11.8x8mm*P0.55mm*; Footprint: Package_SO:TSOP-I-28_11.8x8mm_P0.55mm; Supplier: https://datasheetspdf.com/pdf-file/700027/Winbond/ISD2560/1
footprint TSOP-I-28_11.8x8mm_P0.55mm
pins: 1 A0/M0 (in), 2 A1/M1 (in), 3 A2/M2 (in), 4 A3/M3 (in), 5 A4/M4 (in), 6 A5/M5 (in), 7 A6/M6 (in), 8 A7 (in), 9 A8 (in), 10 A9 (in), 11 AUX_IN (in), 12 VSSD (power), 13 VSSA (power), 14 SP+ (out), 15 SP- (out), 16 VCCA (power), 17 MIC (in), 18 MIC_REF, 19 AGC, 20 ANA_IN (in), 21 ANA_OUT (out), 22 ~{{OVF}} (out), 23 ~{{CE}} (in), 24 PD (in), 25 ~{{EOM}} (out), 26 XCLK (in), 27 P/~{{R}} (in), 28 VCCD (power)

## ISD2560P
designator *  value ISD2560P
ki_keywords: isd2560; ki_description: Single-Chip Voice Record/Playback Device 60-Second Duration, DIP-28; ki_fp_filters: DIP*W15.24mm*; Footprint: Package_DIP:DIP-28_W15.24mm; Supplier: https://datasheetspdf.com/pdf-file/700027/Winbond/ISD2560/1
footprint DIP-28_W15.24mm
pins: 1 A0/M0 (in), 2 A1/M1 (in), 3 A2/M2 (in), 4 A3/M3 (in), 5 A4/M4 (in), 6 A5/M5 (in), 7 A6/M6 (in), 8 A7 (in), 9 A8 (in), 10 A9 (in), 11 AUX_IN (in), 12 VSSD (power), 13 VSSA (power), 14 SP+ (out), 15 SP- (out), 16 VCCA (power), 17 MIC (in), 18 MIC_REF, 19 AGC, 20 ANA_IN (in), 21 ANA_OUT (out), 22 ~{{OVF}} (out), 23 ~{{CE}} (in), 24 PD (in), 25 ~{{EOM}} (out), 26 XCLK (in), 27 P/~{{R}} (in), 28 VCCD (power)

## ISD2560S
designator *  value ISD2560S
ki_keywords: isd2560; ki_description: Single-Chip Voice Record/Playback Device 60-Second Duration, SOIC-28; ki_fp_filters: SOIC*7.5x17.9mm*P1.27mm*; Footprint: Package_SO:SOIC-28W_7.5x17.9mm_P1.27mm; Supplier: https://datasheetspdf.com/pdf-file/700027/Winbond/ISD2560/1
footprint SOIC-28W_7.5x17.9mm_P1.27mm
pins: 1 A0/M0 (in), 2 A1/M1 (in), 3 A2/M2 (in), 4 A3/M3 (in), 5 A4/M4 (in), 6 A5/M5 (in), 7 A6/M6 (in), 8 A7 (in), 9 A8 (in), 10 A9 (in), 11 AUX_IN (in), 12 VSSD (power), 13 VSSA (power), 14 SP+ (out), 15 SP- (out), 16 VCCA (power), 17 MIC (in), 18 MIC_REF, 19 AGC, 20 ANA_IN (in), 21 ANA_OUT (out), 22 ~{{OVF}} (out), 23 ~{{CE}} (in), 24 PD (in), 25 ~{{EOM}} (out), 26 XCLK (in), 27 P/~{{R}} (in), 28 VCCD (power)

## ISD2575E
designator *  value ISD2575E
ki_keywords: isd2575; ki_description: Single-Chip Voice Record/Playback Device 75-Second Duration, TSOP-I-28; ki_fp_filters: TSOP*11.8x8mm*P0.55mm*; Footprint: Package_SO:TSOP-I-28_11.8x8mm_P0.55mm; Supplier: https://datasheetspdf.com/pdf-file/700027/Winbond/ISD2560/1
footprint TSOP-I-28_11.8x8mm_P0.55mm
pins: 1 A0/M0 (in), 2 A1/M1 (in), 3 A2/M2 (in), 4 A3/M3 (in), 5 A4/M4 (in), 6 A5/M5 (in), 7 A6/M6 (in), 8 A7 (in), 9 A8 (in), 10 A9 (in), 11 AUX_IN (in), 12 VSSD (power), 13 VSSA (power), 14 SP+ (out), 15 SP- (out), 16 VCCA (power), 17 MIC (in), 18 MIC_REF, 19 AGC, 20 ANA_IN (in), 21 ANA_OUT (out), 22 ~{{OVF}} (out), 23 ~{{CE}} (in), 24 PD (in), 25 ~{{EOM}} (out), 26 XCLK (in), 27 P/~{{R}} (in), 28 VCCD (power)

## ISD2575P
designator *  value ISD2575P
ki_keywords: isd2575; ki_description: Single-Chip Voice Record/Playback Device 75-Second Duration, DIP-28; ki_fp_filters: DIP*W15.24mm*; Footprint: Package_DIP:DIP-28_W15.24mm; Supplier: https://datasheetspdf.com/pdf-file/700027/Winbond/ISD2560/1
footprint DIP-28_W15.24mm
pins: 1 A0/M0 (in), 2 A1/M1 (in), 3 A2/M2 (in), 4 A3/M3 (in), 5 A4/M4 (in), 6 A5/M5 (in), 7 A6/M6 (in), 8 A7 (in), 9 A8 (in), 10 A9 (in), 11 AUX_IN (in), 12 VSSD (power), 13 VSSA (power), 14 SP+ (out), 15 SP- (out), 16 VCCA (power), 17 MIC (in), 18 MIC_REF, 19 AGC, 20 ANA_IN (in), 21 ANA_OUT (out), 22 ~{{OVF}} (out), 23 ~{{CE}} (in), 24 PD (in), 25 ~{{EOM}} (out), 26 XCLK (in), 27 P/~{{R}} (in), 28 VCCD (power)

## ISD2575S
designator *  value ISD2575S
ki_keywords: isd2575; ki_description: Single-Chip Voice Record/Playback Device 75-Second Duration, SOIC-28; ki_fp_filters: SOIC*7.5x17.9mm*P1.27mm*; Footprint: Package_SO:SOIC-28W_7.5x17.9mm_P1.27mm; Supplier: https://datasheetspdf.com/pdf-file/700027/Winbond/ISD2560/1
footprint SOIC-28W_7.5x17.9mm_P1.27mm
pins: 1 A0/M0 (in), 2 A1/M1 (in), 3 A2/M2 (in), 4 A3/M3 (in), 5 A4/M4 (in), 6 A5/M5 (in), 7 A6/M6 (in), 8 A7 (in), 9 A8 (in), 10 A9 (in), 11 AUX_IN (in), 12 VSSD (power), 13 VSSA (power), 14 SP+ (out), 15 SP- (out), 16 VCCA (power), 17 MIC (in), 18 MIC_REF, 19 AGC, 20 ANA_IN (in), 21 ANA_OUT (out), 22 ~{{OVF}} (out), 23 ~{{CE}} (in), 24 PD (in), 25 ~{{EOM}} (out), 26 XCLK (in), 27 P/~{{R}} (in), 28 VCCD (power)

## ISD2590E
designator *  value ISD2590E
ki_keywords: isd2590; ki_description: Single-Chip Voice Record/Playback Device 90-Second Duration, TSOP-I-28; ki_fp_filters: TSOP*11.8x8mm*P0.55mm*; Footprint: Package_SO:TSOP-I-28_11.8x8mm_P0.55mm; Supplier: https://datasheetspdf.com/pdf-file/700027/Winbond/ISD2560/1
footprint TSOP-I-28_11.8x8mm_P0.55mm
pins: 1 A0/M0 (in), 2 A1/M1 (in), 3 A2/M2 (in), 4 A3/M3 (in), 5 A4/M4 (in), 6 A5/M5 (in), 7 A6/M6 (in), 8 A7 (in), 9 A8 (in), 10 A9 (in), 11 AUX_IN (in), 12 VSSD (power), 13 VSSA (power), 14 SP+ (out), 15 SP- (out), 16 VCCA (power), 17 MIC (in), 18 MIC_REF, 19 AGC, 20 ANA_IN (in), 21 ANA_OUT (out), 22 ~{{OVF}} (out), 23 ~{{CE}} (in), 24 PD (in), 25 ~{{EOM}} (out), 26 XCLK (in), 27 P/~{{R}} (in), 28 VCCD (power)

## ISD2590P
designator *  value ISD2590P
ki_keywords: isd2590; ki_description: Single-Chip Voice Record/Playback Device 90-Second Duration, DIP-28; ki_fp_filters: DIP*W15.24mm*; Footprint: Package_DIP:DIP-28_W15.24mm; Supplier: https://datasheetspdf.com/pdf-file/700027/Winbond/ISD2560/1
footprint DIP-28_W15.24mm
pins: 1 A0/M0 (in), 2 A1/M1 (in), 3 A2/M2 (in), 4 A3/M3 (in), 5 A4/M4 (in), 6 A5/M5 (in), 7 A6/M6 (in), 8 A7 (in), 9 A8 (in), 10 A9 (in), 11 AUX_IN (in), 12 VSSD (power), 13 VSSA (power), 14 SP+ (out), 15 SP- (out), 16 VCCA (power), 17 MIC (in), 18 MIC_REF, 19 AGC, 20 ANA_IN (in), 21 ANA_OUT (out), 22 ~{{OVF}} (out), 23 ~{{CE}} (in), 24 PD (in), 25 ~{{EOM}} (out), 26 XCLK (in), 27 P/~{{R}} (in), 28 VCCD (power)

## ISD2590S
designator *  value ISD2590S
ki_keywords: isd2590; ki_description: Single-Chip Voice Record/Playback Device 90-Second Duration, SOIC-28; ki_fp_filters: SOIC*7.5x17.9mm*P1.27mm*; Footprint: Package_SO:SOIC-28W_7.5x17.9mm_P1.27mm; Supplier: https://datasheetspdf.com/pdf-file/700027/Winbond/ISD2560/1
footprint SOIC-28W_7.5x17.9mm_P1.27mm
pins: 1 A0/M0 (in), 2 A1/M1 (in), 3 A2/M2 (in), 4 A3/M3 (in), 5 A4/M4 (in), 6 A5/M5 (in), 7 A6/M6 (in), 8 A7 (in), 9 A8 (in), 10 A9 (in), 11 AUX_IN (in), 12 VSSD (power), 13 VSSA (power), 14 SP+ (out), 15 SP- (out), 16 VCCA (power), 17 MIC (in), 18 MIC_REF, 19 AGC, 20 ANA_IN (in), 21 ANA_OUT (out), 22 ~{{OVF}} (out), 23 ~{{CE}} (in), 24 PD (in), 25 ~{{EOM}} (out), 26 XCLK (in), 27 P/~{{R}} (in), 28 VCCD (power)

## ISD25120P
designator *  value ISD25120P
ki_keywords: isd25120; ki_description: Single-Chip Voice Record/Playback Device 120-Second Duration, DIP-28; ki_fp_filters: DIP*W15.24mm*; Footprint: Package_DIP:DIP-28_W15.24mm; Supplier: https://datasheetspdf.com/pdf-file/700027/Winbond/ISD2560/1
footprint DIP-28_W15.24mm
pins: 1 A0/M0 (in), 2 A1/M1 (in), 3 A2/M2 (in), 4 A3/M3 (in), 5 A4/M4 (in), 6 A5/M5 (in), 7 A6/M6 (in), 8 A7 (in), 9 A8 (in), 10 A9 (in), 11 AUX_IN (in), 12 VSSD (power), 13 VSSA (power), 14 SP+ (out), 15 SP- (out), 16 VCCA (power), 17 MIC (in), 18 MIC_REF, 19 AGC, 20 ANA_IN (in), 21 ANA_OUT (out), 22 ~{{OVF}} (out), 23 ~{{CE}} (in), 24 PD (in), 25 ~{{EOM}} (out), 26 XCLK (in), 27 P/~{{R}} (in), 28 VCCD (power)

## ISD25120S
designator *  value ISD25120S
ki_keywords: isd25120; ki_description: Single-Chip Voice Record/Playback Device 120-Second Duration, SOIC-28; ki_fp_filters: SOIC*7.5x17.9mm*P1.27mm*; Footprint: Package_SO:SOIC-28W_7.5x17.9mm_P1.27mm; Supplier: https://datasheetspdf.com/pdf-file/700027/Winbond/ISD2560/1
footprint SOIC-28W_7.5x17.9mm_P1.27mm
pins: 1 A0/M0 (in), 2 A1/M1 (in), 3 A2/M2 (in), 4 A3/M3 (in), 5 A4/M4 (in), 6 A5/M5 (in), 7 A6/M6 (in), 8 A7 (in), 9 A8 (in), 10 A9 (in), 11 AUX_IN (in), 12 VSSD (power), 13 VSSA (power), 14 SP+ (out), 15 SP- (out), 16 VCCA (power), 17 MIC (in), 18 MIC_REF, 19 AGC, 20 ANA_IN (in), 21 ANA_OUT (out), 22 ~{{OVF}} (out), 23 ~{{CE}} (in), 24 PD (in), 25 ~{{EOM}} (out), 26 XCLK (in), 27 P/~{{R}} (in), 28 VCCD (power)

## MN3005
designator *  value MN3005
ki_keywords: Matsushita Panasonic BBD; ki_description: 4096-STAGE LONG DELAY BBD (bucket brigade device), delay time 20.48ms to 204.8ms, S/N 75dB, clock frequency range 10KHz to 100KHz; ki_fp_filters: DIP-8*; Supplier: http://www.experimentalistsanonymous.com/diy/Datasheets/MN3005.pdf
pins: 1 GND (power), 2 CP2 (in), 3 OUT1 (out), 4 OUT2 (out), 5 VDD (power), 6 CP1 (in), 7 IN (in), 8 VGG (power)

## MN3007
designator *  value MN3007
ki_keywords: Matsushita Panasonic BBD; ki_description: 1024-STAGE LOW NOISE BBD (bucket brigade device), delay time 5.12ms to 51.2ms, S/N 80dB, clock frequency range 10KHz to 100KHz; ki_fp_filters: DIP-8*; Supplier: http://www.experimentalistsanonymous.com/diy/Datasheets/MN3007.pdf
pins: 1 GND (power), 2 CP1 (in), 3 IN (in), 4 VGG (power), 5 VDD (power), 6 CP2 (in), 7 OUT1 (out), 8 OUT2 (out)

## MN3207
designator *  value MN3207
ki_keywords: Matsushita Panasonic BBD; ki_description: 1024-STAGE LOW VOLTAGE OPERATION LOW NOISE BBD (bucket brigade device), delay time 2.56ms to 51.2ms, S/N 73dB, clock frequency range 10KHz to 200KHz; ki_fp_filters: DIP-8*; Supplier: http://www.experimentalistsanonymous.com/diy/Datasheets/MN3207.pdf
pins: 1 GND (power), 2 CP1 (in), 3 IN (in), 4 VGG (power), 5 VDD (power), 6 CP2 (in), 7 OUT1 (out), 8 OUT2 (out)

## MSGEQ7
designator *  value MSGEQ7
ki_keywords: equalizer filter; ki_description: Seven Band Graphic Equalizer, DIP-8/SOIC-8; ki_fp_filters: SOIC*3.9x4.9mm*P1.27mm* DIP*W7.62mm*; Supplier: http://mix-sig.com/images/datasheets/MSGEQ7.pdf
pins: 1 VDD (power), 2 VSS (power), 3 OUT (out), 4 STROBE (in), 5 IN (in), 6 GND (power), 7 RESET (in), 8 CKIN (in)
text: FLT; MUX; BP

## PCM1792A
designator *  value PCM1792A
ki_keywords: audio dac 2ch 24bit 192kHz; ki_description: 24-Bit, 192-kHz Sampling, Advanced Segment, Audio Stereo Digital-to-Analog Converter, SW Control, SSOP-28; ki_fp_filters: SSOP*5.3x10.2mm*P0.65mm*; Footprint: Package_SO:SSOP-28_5.3x10.2mm_P0.65mm; Supplier: http://www.ti.com/lit/ds/symlink/pcm1792a.pdf
footprint SSOP-28_5.3x10.2mm_P0.65mm
pins: 1 ZEROL (out), 2 ZEROR (out), 3 MSEL (in), 4 LRCK (in), 5 DATA (in), 6 BCK (in), 7 SCK (in), 8 DGND (power), 9 VDD (power), 10 ~{{MS}} (in), 11 MDI (in), 12 MC (in), 13 MDO (io), 14 ~{{RST}} (in), 15 VCC2R (power), 16 AGND3R (power), 17 IOUTR+ (out), 18 IOUTR- (out), 19 AGND1 (power), 20 IREF, 21 VCOMR (out), 22 VCOML, 23 VCC1 (power), 24 AGND2 (power), 25 IOUTL+ (out), 26 IOUTL- (out), 27 AGND3L (power), 28 VCC2L (power)

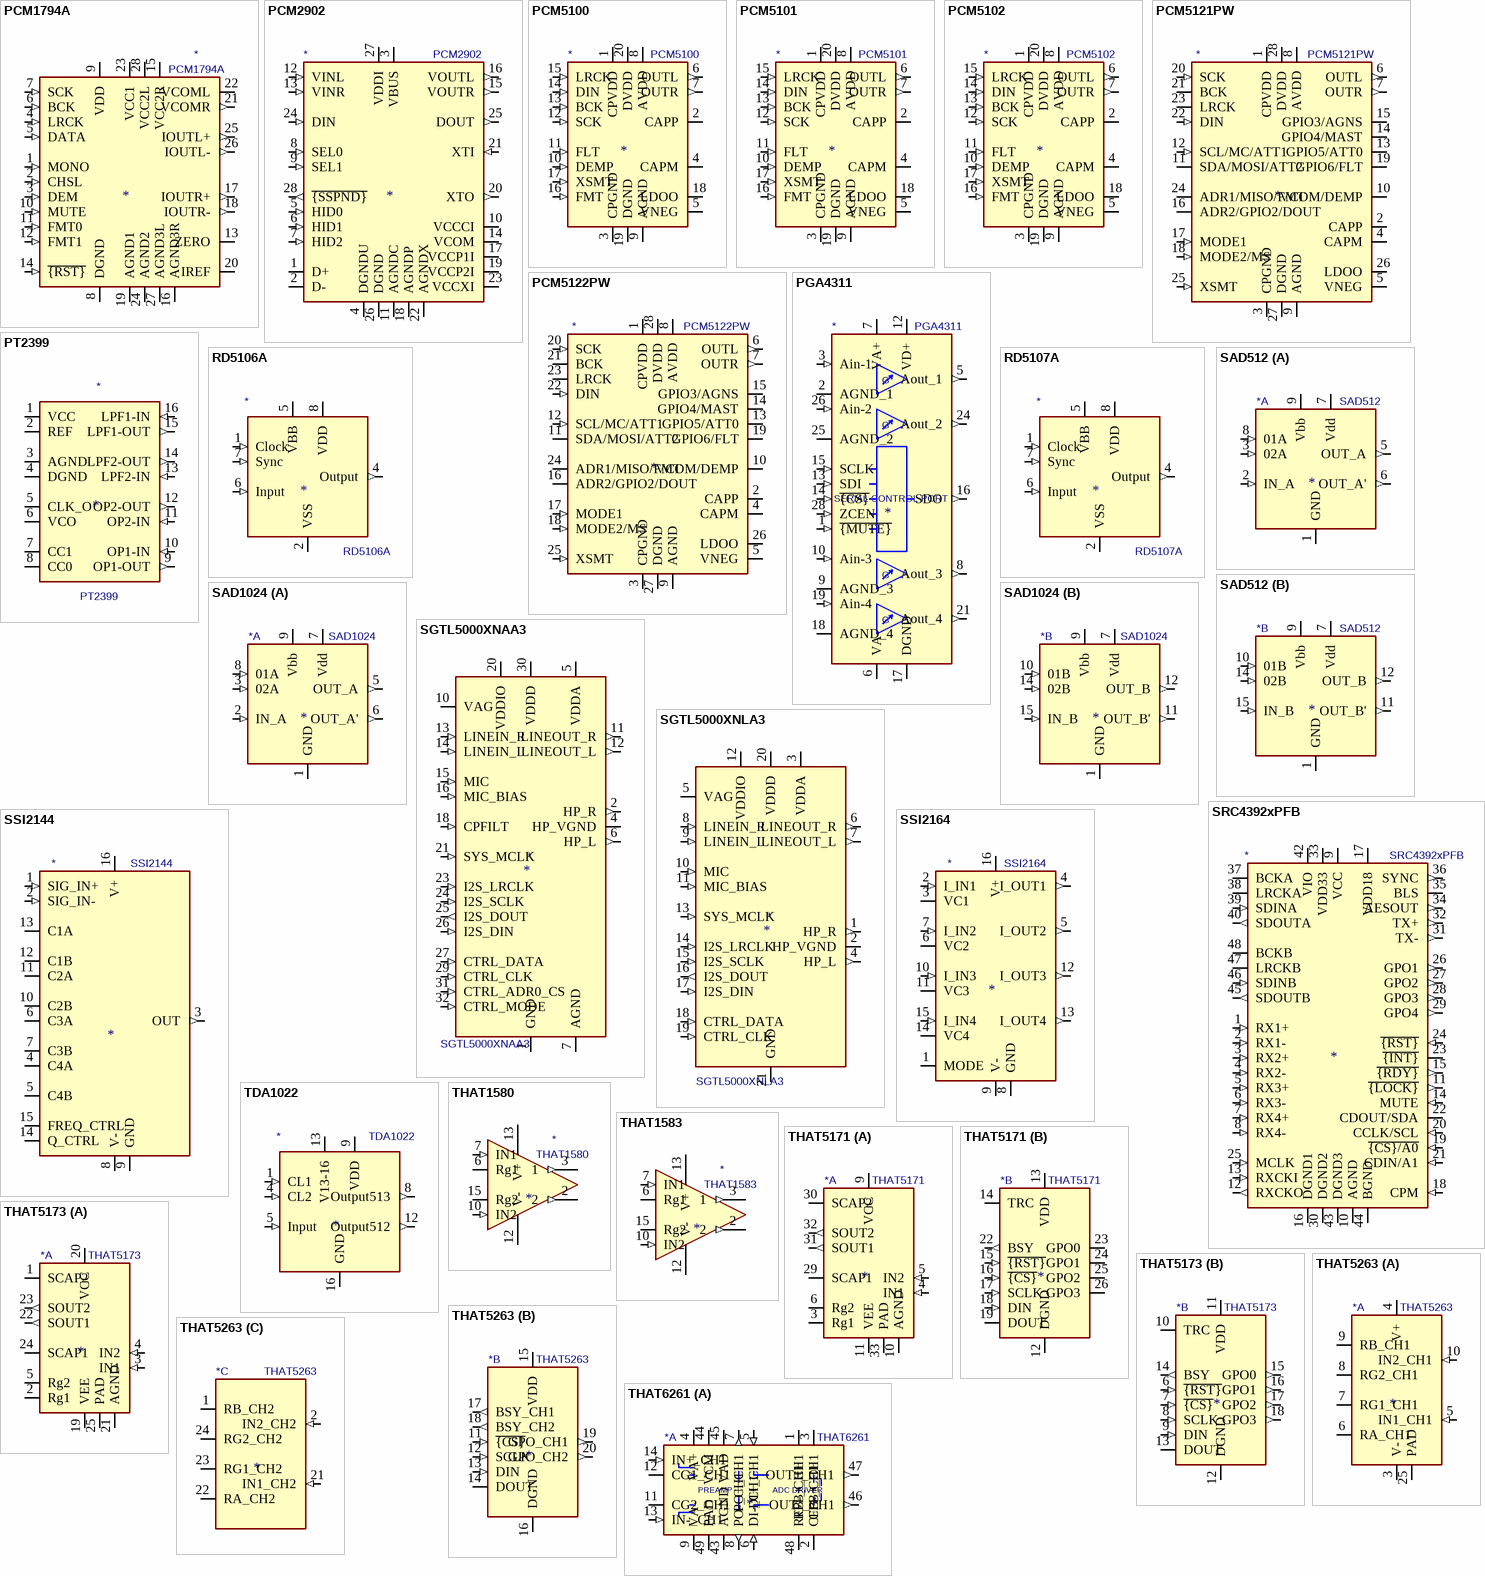
[diagram p2: symbols PCM1794A to THAT6261]

## PCM1794A
designator *  value PCM1794A
ki_keywords: audio dac 2ch 24bit 192kHz; ki_description: 24-Bit, 192-kHz Sampling, Advanced Segment, Audio Stereo Digital-to-Analog Converter, HW Control, SSOP-28; ki_fp_filters: SSOP*5.3x10.2mm*P0.65mm*; Footprint: Package_SO:SSOP-28_5.3x10.2mm_P0.65mm; Supplier: http://www.ti.com/lit/ds/symlink/pcm1794a.pdf
footprint SSOP-28_5.3x10.2mm_P0.65mm
pins: 1 MONO (in), 2 CHSL (in), 3 DEM (in), 4 LRCK (in), 5 DATA (in), 6 BCK (in), 7 SCK (in), 8 DGND (power), 9 VDD (power), 10 MUTE (in), 11 FMT0 (in), 12 FMT1 (in), 13 ZERO (oc), 14 ~{{RST}} (in), 15 VCC2R (power), 16 AGND3R (power), 17 IOUTR+ (out), 18 IOUTR- (out), 19 AGND1 (power), 20 IREF, 21 VCOMR (out), 22 VCOML, 23 VCC1 (power), 24 AGND2 (power), 25 IOUTL+ (out), 26 IOUTL- (out), 27 AGND3L (power), 28 VCC2L (power)

## PCM2902
designator *  value PCM2902
ki_keywords: pcm2902 usb audio; ki_description: Stereo Audio Codec with USB interface, Analog Input/Output, and S/PDIF, SSOP-28; ki_fp_filters: SSOP*5.3x10.2mm*P0.65mm*; Footprint: Package_SO:SSOP-28_5.3x10.2mm_P0.65mm; Supplier: http://www.ti.com/lit/ds/symlink/pcm2902c.pdf
footprint SSOP-28_5.3x10.2mm_P0.65mm
pins: 1 D+ (io), 2 D- (io), 3 VBUS (power), 4 DGNDU (power), 5 HID0 (in), 6 HID1 (in), 7 HID2 (in), 8 SEL0 (in), 9 SEL1 (in), 10 VCCCI, 11 AGNDC (power), 12 VINL (in), 13 VINR (in), 14 VCOM, 15 VOUTR (out), 16 VOUTL (out), 17 VCCP1I, 18 AGNDP (power), 19 VCCP2I, 20 XTO (out), 21 XTI (in), 22 AGNDX (power), 23 VCCXI, 24 DIN (in), 25 DOUT (out), 26 DGND (power), 27 VDDI (power), 28 ~{{SSPND}} (out)

## PCM5100
designator *  value PCM5100
ki_keywords: audio dac 2ch 32bit 384kHz; ki_description: 2VRMS DirectPath, 100dB Audio Stereo DAC with 32-bit, 384kHz PCM Interface, TSSOP-20; ki_fp_filters: TSSOP*4.4x6.5mm*P0.65mm*; Footprint: Package_SO:TSSOP-20_4.4x6.5mm_P0.65mm; Supplier: http://www.ti.com/lit/ds/symlink/pcm5100.pdf
footprint TSSOP-20_4.4x6.5mm_P0.65mm
pins: 1 CPVDD, 2 CAPP, 3 CPGND (power), 4 CAPM, 5 VNEG, 6 OUTL (out), 7 OUTR (out), 8 AVDD (power), 9 AGND (power), 10 DEMP (in), 11 FLT (in), 12 SCK (in), 13 BCK (in), 14 DIN (in), 15 LRCK (in), 16 FMT (in), 17 XSMT (in), 18 LDOO, 19 DGND (power), 20 DVDD (power)

## PCM5101
designator *  value PCM5101
ki_keywords: audio dac 2ch 32bit 384kHz; ki_description: 2VRMS DirectPath, 106dB Audio Stereo DAC with 32-bit, 384kHz PCM Interface, TSSOP-20; ki_fp_filters: TSSOP*4.4x6.5mm*P0.65mm*; Footprint: Package_SO:TSSOP-20_4.4x6.5mm_P0.65mm; Supplier: http://www.ti.com/lit/ds/symlink/pcm5101.pdf
footprint TSSOP-20_4.4x6.5mm_P0.65mm
pins: 1 CPVDD, 2 CAPP, 3 CPGND (power), 4 CAPM, 5 VNEG, 6 OUTL (out), 7 OUTR (out), 8 AVDD (power), 9 AGND (power), 10 DEMP (in), 11 FLT (in), 12 SCK (in), 13 BCK (in), 14 DIN (in), 15 LRCK (in), 16 FMT (in), 17 XSMT (in), 18 LDOO, 19 DGND (power), 20 DVDD (power)

## PCM5102
designator *  value PCM5102
ki_keywords: audio dac 2ch 32bit 384kHz; ki_description: 2VRMS DirectPath, 112dB Audio Stereo DAC with 32-bit, 384kHz PCM Interface, TSSOP-20; ki_fp_filters: TSSOP*4.4x6.5mm*P0.65mm*; Footprint: Package_SO:TSSOP-20_4.4x6.5mm_P0.65mm; Supplier: http://www.ti.com/lit/ds/symlink/pcm5102.pdf
footprint TSSOP-20_4.4x6.5mm_P0.65mm
pins: 1 CPVDD, 2 CAPP, 3 CPGND (power), 4 CAPM, 5 VNEG, 6 OUTL (out), 7 OUTR (out), 8 AVDD (power), 9 AGND (power), 10 DEMP (in), 11 FLT (in), 12 SCK (in), 13 BCK (in), 14 DIN (in), 15 LRCK (in), 16 FMT (in), 17 XSMT (in), 18 LDOO, 19 DGND (power), 20 DVDD (power)

## PCM5121PW
designator *  value PCM5121PW
ki_keywords: audio dac 2ch 32bit 384kHz; ki_description: 2VRMS DirectPath, 106dB Audio Stereo DAC with 32-bit, 384kHz PCM Interface, TSSOP-28; ki_fp_filters: TSSOP*4.4x9.7mm*P0.65mm*; Footprint: Package_SO:TSSOP-28_4.4x9.7mm_P0.65mm; Supplier: http://www.ti.com/lit/ds/symlink/pcm5121.pdf
footprint TSSOP-28_4.4x9.7mm_P0.65mm
pins: 1 CPVDD (power), 2 CAPP, 3 CPGND (power), 4 CAPM, 5 VNEG, 6 OUTL (out), 7 OUTR (out), 8 AVDD (power), 9 AGND (power), 10 VCOM/DEMP (io), 11 SDA/MOSI/ATT2 (io), 12 SCL/MC/ATT1 (in), 13 GPIO5/ATT0 (io), 14 GPIO4/MAST (io), 15 GPIO3/AGNS (io), 16 ADR2/GPIO2/DOUT (io), 17 MODE1 (in), 18 MODE2/MS (in), 19 GPIO6/FLT (io), 20 SCK (in), 21 BCK (io), 22 DIN (in), 23 LRCK (io), 24 ADR1/MISO/FMT (io), 25 XSMT (in), 26 LDOO, 27 DGND (power), 28 DVDD (power)

## PCM5122PW
designator *  value PCM5122PW
ki_keywords: audio dac 2ch 32bit 384kHz; ki_description: 2VRMS DirectPath, 112dB Audio Stereo DAC with 32-bit, 384kHz PCM Interface, TSSOP-28; ki_fp_filters: TSSOP*4.4x9.7mm*P0.65mm*; Footprint: Package_SO:TSSOP-28_4.4x9.7mm_P0.65mm; Supplier: http://www.ti.com/lit/ds/symlink/pcm5122.pdf
footprint TSSOP-28_4.4x9.7mm_P0.65mm
pins: 1 CPVDD (power), 2 CAPP, 3 CPGND (power), 4 CAPM, 5 VNEG, 6 OUTL (out), 7 OUTR (out), 8 AVDD (power), 9 AGND (power), 10 VCOM/DEMP (io), 11 SDA/MOSI/ATT2 (io), 12 SCL/MC/ATT1 (in), 13 GPIO5/ATT0 (io), 14 GPIO4/MAST (io), 15 GPIO3/AGNS (io), 16 ADR2/GPIO2/DOUT (io), 17 MODE1 (in), 18 MODE2/MS (in), 19 GPIO6/FLT (io), 20 SCK (in), 21 BCK (io), 22 DIN (in), 23 LRCK (io), 24 ADR1/MISO/FMT (io), 25 XSMT (in), 26 LDOO, 27 DGND (power), 28 DVDD (power)

## PGA4311
designator *  value PGA4311
ki_keywords: audio volume control 4ch spi; ki_description: 4-Channel Audio Volume Control, SPI Interface, +31.5dB to -95.5dB, SOIC-28W; ki_fp_filters: SOIC*7.5x17.9mm*P1.27mm*; Footprint: Package_SO:SOIC-28W_7.5x17.9mm_P1.27mm; Supplier: http://www.ti.com/lit/ds/symlink/pga4311.pdf
footprint SOIC-28W_7.5x17.9mm_P1.27mm
pins: 1 ~{{MUTE}} (in), 2 AGND_1 (power), 3 Ain-1 (in), 4 AGND_1 hidden, 5 Aout_1 (out), 6 VA- (power), 7 VA+ (power), 8 Aout_3 (out), 9 AGND_3 (power), 10 Ain-3 (in), 11 AGND_3 hidden, 12 VD+ (power), 13 SDI (in), 14 ~{{CS}} (in), 15 SCLK (in), 16 SDO (out), 17 DGND (power), 18 AGND_4 (power), 19 Ain-4 (in), 20 AGND_4 hidden, 21 Aout_4 (out), 22 VA+ hidden, 23 VA- hidden, 24 Aout_2 (out), 25 AGND_2 (power), 26 Ain-2 (in), 27 AGND_2 hidden, 28 ZCEN (in)
text: G; SERIAL CONTROL PORT

## PT2399
designator *  value PT2399
ki_keywords: CMOS ADC DAC 44K Digital processing VCO; ki_description: Echo Processor IC; ki_fp_filters: DIP-16*; Supplier: http://sound.westhost.com/pt2399.pdf
pins: 1 VCC (power), 2 REF, 3 AGND (power), 4 DGND (power), 5 CLK_O, 6 VCO, 7 CC1, 8 CC0, 9 OP1-OUT (out), 10 OP1-IN (in), 11 OP2-IN (in), 12 OP2-OUT (out), 13 LPF2-IN (in), 14 LPF2-OUT (out), 15 LPF1-OUT (out), 16 LPF1-IN (in)

## RD5106A
designator *  value RD5106A
ki_keywords: EG&G RETICON BBD N-channel silicon-gate; ki_description: Analog Delay Line 256 sample bucket brigade device, 512usec to more than 1second, input signal frequency range 0 to 170KHz, clock frequency range 500Hz to 1MHz; ki_fp_filters: DIP-8*; Supplier: http://pdf.datasheetarchive.com/indexerfiles/Scans-091/DSAHI00048836.pdf
pins: 1 Clock (in), 2 VSS (power), 3 NC (in) hidden, 4 Output (out), 5 VBB (power), 6 Input (in), 7 Sync (in), 8 VDD (power)

## RD5107A
designator *  value RD5107A
ki_keywords: EG&G RETICON BBD N-channel silicon-gate; ki_description: Analog Delay Line 512 sample bucket brigade device, 1msec to more than 2seconds, input signal frequency range 0 to 170KHz, clock frequency range 500Hz to 1MHz; ki_fp_filters: DIP-8*; Supplier: http://pdf.datasheetarchive.com/indexerfiles/Scans-091/DSAHI00048836.pdf
pins: 1 Clock (in), 2 VSS (power), 3 NC (in) hidden, 4 Output (out), 5 VBB (power), 6 Input (in), 7 Sync (in), 8 VDD (power)

## SAD512
designator *  value SAD512
ki_keywords: EG&G RETICON BBD N-channel silicon-gate; ki_description: SAD-512 ANALOG DELAY LINE, bucket brigade device, 512 stages, signal frequency range 0 to 200KHz, clock frequency range 1.5KHz to 1.5MHz; ki_fp_filters: DIP-16*; Supplier: http://thmq.mysteria.cz/em1022/SAD1024.pdf
part A pins: 1 GND (power), 2 IN_A (in), 3 02A (in), 4 NC (in) hidden, 5 OUT_A (out), 6 OUT_A' (out), 7 Vdd (power), 8 01A (in), 9 Vbb (power), 13 NC (in) hidden, 16 NC (in) hidden
part B pins: 1 GND (power), 4 NC (in) hidden, 7 Vdd (power), 9 Vbb (power), 10 01B (in), 11 OUT_B' (out), 12 OUT_B (out), 13 NC (in) hidden, 14 02B (in), 15 IN_B (in), 16 NC (in) hidden

## SAD1024
designator *  value SAD1024
ki_keywords: EG&G RETICON BBD N-channel silicon-gate; ki_description: SAD-1024 DUAL ANALOG DELAY LINE, bucket brigade device, 2 independent 512 stages, signal frequency range 0 to 200KHz, clock frequency range 1.5KHz to 1.5MHz; ki_fp_filters: DIP-16*; Supplier: http://thmq.mysteria.cz/em1022/SAD1024.pdf
part A pins: 1 GND (power), 2 IN_A (in), 3 02A (in), 4 NC (in) hidden, 5 OUT_A (out), 6 OUT_A' (out), 7 Vdd (power), 8 01A (in), 9 Vbb (power), 13 NC (in) hidden, 16 NC (in) hidden
part B pins: 1 GND (power), 4 NC (in) hidden, 7 Vdd (power), 9 Vbb (power), 10 01B (in), 11 OUT_B' (out), 12 OUT_B (out), 13 NC (in) hidden, 14 02B (in), 15 IN_B (in), 16 NC (in) hidden

## SGTL5000XNAA3
designator *  value SGTL5000XNAA3
ki_keywords: Codec; ki_description: Low Power Stereo Codec with Headphone Amp, QFN-32; ki_fp_filters: QFN*1EP*5x5mm*P0.5mm*; Footprint: Package_DFN_QFN:QFN-32-1EP_5x5mm_P0.5mm_EP3.6x3.6mm; Supplier: https://www.nxp.com/docs/en/data-sheet/SGTL5000.pdf
footprint QFN-32-1EP_5x5mm_P0.5mm_EP3.6x3.6mm
pins: 1 GND (power), 2 HP_R (out), 3 GND hidden, 4 HP_VGND (power), 5 VDDA (power), 6 HP_L (out), 7 AGND (power), 8 NC (in) hidden, 9 NC (in) hidden, 10 VAG, 11 LINEOUT_R (out), 12 LINEOUT_L (out), 13 LINEIN_R (in), 14 LINEIN_L (in), 15 MIC (in), 16 MIC_BIAS (in), 17 NC (in) hidden, 18 CPFILT (in), 19 NC (in) hidden, 20 VDDIO (power), 21 SYS_MCLK (in), 22 NC (in) hidden, 23 I2S_LRCLK (in), 24 I2S_SCLK (in), 25 I2S_DOUT (out), 26 I2S_DIN (in), 27 CTRL_DATA (in), 28 NC (in) hidden, 29 CTRL_CLK (in), 30 VDDD (power), 31 CTRL_ADR0_CS (in), 32 CTRL_MODE (in), 33 GND hidden

## SGTL5000XNLA3
designator *  value SGTL5000XNLA3
ki_keywords: Codec; ki_description: Low Power Stereo Codec with Headphone Amp, QFN-20; ki_fp_filters: QFN*1EP*3x3mm*P0.4mm*; Footprint: Package_DFN_QFN:QFN-20-1EP_3x3mm_P0.4mm_EP1.65x1.65mm; Supplier: https://www.nxp.com/docs/en/data-sheet/SGTL5000.pdf
footprint QFN-20-1EP_3x3mm_P0.4mm_EP1.65x1.65mm
pins: 1 HP_R (out), 2 HP_VGND (power), 3 VDDA (power), 4 HP_L (out), 5 VAG, 6 LINEOUT_R (out), 7 LINEOUT_L (out), 8 LINEIN_R (in), 9 LINEIN_L (in), 10 MIC (in), 11 MIC_BIAS (in), 12 VDDIO (power), 13 SYS_MCLK (in), 14 I2S_LRCLK (in), 15 I2S_SCLK (in), 16 I2S_DOUT (out), 17 I2S_DIN (in), 18 CTRL_DATA (in), 19 CTRL_CLK (in), 20 VDDD (power), 21 GND (power)

## SRC4392xPFB
designator *  value SRC4392xPFB
ki_keywords: audio sample rate converter; ki_description: Two-Channel, Asynchronous Sample Rate Converter with Integrated Digital Audio Interface Receiver and Transmitter, TQFP-48; ki_fp_filters: TQFP*7x7mm*P0.5mm*; Footprint: Package_QFP:TQFP-48_7x7mm_P0.5mm; Supplier: http://www.ti.com/lit/ds/symlink/src4392.pdf
footprint TQFP-48_7x7mm_P0.5mm
pins: 1 RX1+ (in), 2 RX1- (in), 3 RX2+ (in), 4 RX2- (in), 5 RX3+ (in), 6 RX3- (in), 7 RX4+ (in), 8 RX4- (in), 9 VCC (power), 10 AGND (power), 11 ~{{LOCK}} (out), 12 RXCKO (out), 13 RXCKI (in), 14 MUTE (in), 15 ~{{RDY}} (out), 16 DGND1 (power), 17 VDD18 (power), 18 CPM (in), 19 ~{{CS}/A0} (in), 20 CCLK/SCL (in), 21 CDIN/A1 (in), 22 CDOUT/SDA (io), 23 ~{{INT}} (oc), 24 ~{{RST}} (in), 25 MCLK (in), 26 GPO1 (out), 27 GPO2 (out), 28 GPO3 (out), 29 GPO4 (out), 30 DGND2 (power), 31 TX- (out), 32 TX+ (out), 33 VDD33 (power), 34 AESOUT (out), 35 BLS (io), 36 SYNC (out), 37 BCKA (io), 38 LRCKA (io), 39 SDINA (in), 40 SDOUTA (out), 41 NC (in) hidden, 42 VIO (power), 43 DGND3 (power), 44 BGND (power), 45 SDOUTB (out), 46 SDINB (in), 47 LRCKB (io), 48 BCKB (io)

## SSI2144
designator *  value SSI2144
ki_keywords: Sound Semiconductor VCF SSM2044; ki_description: Four-pole VCF, SSOP-16; ki_fp_filters: SSOP*3.9x4.9mm*P0.635mm*; Footprint: Package_SO:SSOP-16_3.9x4.9mm_P0.635mm; Supplier: http://www.soundsemiconductor.com/downloads/ssi2144datasheet.pdf
footprint SSOP-16_3.9x4.9mm_P0.635mm
pins: 1 SIG_IN+ (in), 2 SIG_IN- (in), 3 OUT (out), 4 C4A, 5 C4B, 6 C3A, 7 C3B, 8 V- (power), 9 GND (power), 10 C2B, 11 C2A, 12 C1B, 13 C1A, 14 Q_CTRL, 15 FREQ_CTRL, 16 V+ (power)

## SSI2164
designator *  value SSI2164
ki_keywords: Sound Semiconductor VCA SSM2164; ki_description: Quad VCA, SOIC-16; ki_fp_filters: SOIC*3.9x9.9mm*P1.27mm*; Footprint: Package_SO:SOIC-16_3.9x9.9mm_P1.27mm; Supplier: http://www.soundsemiconductor.com/downloads/ssi2164datasheet.pdf
footprint SOIC-16_3.9x9.9mm_P1.27mm
pins: 1 MODE, 2 I_IN1 (in), 3 VC1, 4 I_OUT1 (out), 5 I_OUT2 (out), 6 VC2, 7 I_IN2 (in), 8 GND (power), 9 V- (power), 10 I_IN3 (in), 11 VC3, 12 I_OUT3 (out), 13 I_OUT4 (out), 14 VC4, 15 I_IN4 (in), 16 V+ (power)

## TDA1022
designator *  value TDA1022
ki_keywords: PHILIPS BBD MOS monolithic delay analogue; ki_description: BUCKET BRIGADE DELAY LINE FOR ANALOGUE SIGNALS, 512 stages, delay time 0.512ms to 51.2ms, signal frequency range 0 to 45KHz, clock frequency range 5KHz to 500KHz, DIP-16; ki_fp_filters: DIP*W7.62mm*; Footprint: Package_DIP:DIP-16_W7.62mm; Supplier: http://thmq.mysteria.cz/em1022/TDA1022.pdf
footprint DIP-16_W7.62mm
pins: 1 CL1 (in), 2 NC (in) hidden, 3 NC (in) hidden, 4 CL2 (in), 5 Input (in), 6 NC (in) hidden, 7 NC (in) hidden, 8 Output513 (out), 9 VDD (power), 10 NC (in) hidden, 11 NC (in) hidden, 12 Output512 (out), 13 V13-16 (power), 14 NC (in) hidden, 15 NC (in) hidden, 16 GND (power)

## THAT1580
designator *  value THAT1580
ki_keywords: diff amp mic preamp; ki_description: Low-Noise, Differential Audio Preamplifier IC, 0.005% THD+N, -134.8dBu EIN, QFN-16; ki_fp_filters: QFN*1EP*4x4mm*P0.65mm*; Footprint: Package_DFN_QFN:QFN-16-1EP_4x4mm_P0.65mm_EP2.1x2.1mm_ThermalVias; Supplier: http://www.thatcorp.com/datashts/THAT_1580_Datasheet.pdf
footprint QFN-16-1EP_4x4mm_P0.65mm_EP2.1x2.1mm_ThermalVias
pins: 2 (out), 3 1 (out), 6 Rg1, 7 IN1 (in), 10 IN2 (in), 12 V- (power), 13 V+ (power), 15 Rg2, 17 V- hidden

## THAT1583
designator *  value THAT1583
ki_keywords: diff amp mic preamp; ki_description: Low-Noise, Differential Audio Preamplifier IC, 0.006% THD+N, -128.9dBu EIN, QFN-16; ki_fp_filters: QFN*1EP*4x4mm*P0.65mm*; Footprint: Package_DFN_QFN:QFN-16-1EP_4x4mm_P0.65mm_EP2.1x2.1mm_ThermalVias; Supplier: http://www.thatcorp.com/datashts/THAT_1583_Datasheet.pdf
footprint QFN-16-1EP_4x4mm_P0.65mm_EP2.1x2.1mm_ThermalVias
pins: 2 (out), 3 1 (out), 6 Rg1, 7 IN1 (in), 10 IN2 (in), 12 V- (power), 13 V+ (power), 15 Rg2, 17 V- hidden

## THAT5171
designator *  value THAT5171
ki_keywords: mic preamp gain controller; ki_description: High-Performance Digital Preamplifier Controller IC, QFN-32; ki_fp_filters: QFN*1EP*7x7mm*P0.65mm*; Footprint: Package_DFN_QFN:QFN-32-1EP_7x7mm_P0.65mm_EP5.4x5.4mm; Supplier: http://www.thatcorp.com/datashts/THAT_5171_Datasheet.pdf
footprint QFN-32-1EP_7x7mm_P0.65mm_EP5.4x5.4mm
part A pins: 1 NC (in) hidden, 2 NC (in) hidden, 3 Rg1, 4 IN1 (in), 5 IN2 (in), 6 Rg2, 7 NC (in) hidden, 8 NC (in) hidden, 9 VCC (power), 10 AGND (power), 11 VEE (power), 27 NC (in) hidden, 28 AGND hidden, 29 SCAP1, 30 SCAP2, 31 SOUT1 (out), 32 SOUT2 (out), 33 PAD
part B pins: 12 DGND (power), 13 VDD (power), 14 TRC, 15 ~{{RST}} (in), 16 ~{{CS}} (in), 17 SCLK (in), 18 DIN (in), 19 DOUT (hiz), 20 DGND hidden, 21 VDD hidden, 22 BSY (out), 23 GPO0 (io), 24 GPO1 (io), 25 GPO2 (io), 26 GPO3 (io)